# Altium footprint library slide_potentiometer.PcbLib: 1 footprints
Each footprint in its own frame and in the unit in brackets; x right, y up, seen from the top. Pads: shape width x height; smd on the part's side, far side on the other; paste and mask are expansions set on the pad; w line width, h text height; cw(c..) or ccw(c..) is an arc to the next point about the centre after c.
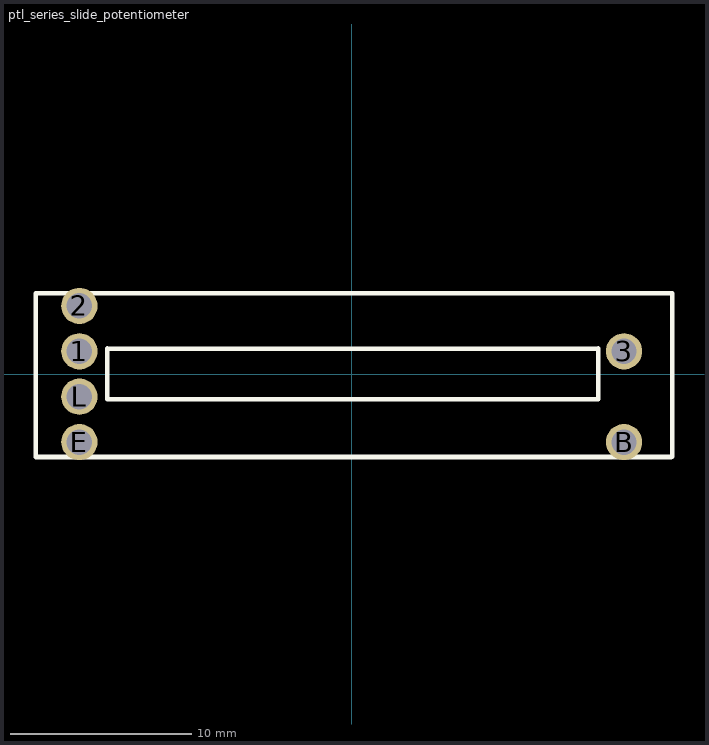
[diagram p0: the footprint, top view; thin cyan lines are the x and y axes]

## ptl_series_slide_potentiometer [mm]
pads (6):
  round 2 hole 1.4: 1(-15,1.25) 3(15,1.25) B(15,-3.75) E(-15,-3.75) L(-15,-1.25)
  round 2 hole 1.4 paste+0: 2(-15,3.75)
Top Overlay:
  lines w0.254: -17.399,-4.572 17.601,-4.572 ; -17.399,-4.555 -17.399,4.445 17.601,4.445 ; -13.462,-1.397 -13.462,1.403 ; -13.411,-1.397 13.589,-1.397 13.589,1.403 ; -13.411,1.397 13.589,1.397 ; 17.653,-4.555 17.653,4.445